# Altium footprint library ADF4360.PcbLib: 3 footprints
Each footprint in its own frame and in the unit in brackets; x right, y up, seen from the top. Pads: shape width x height; smd on the part's side, far side on the other; paste and mask are expansions set on the pad; w line width, h text height; cw(c..) or ccw(c..) is an arc to the next point about the centre after c.
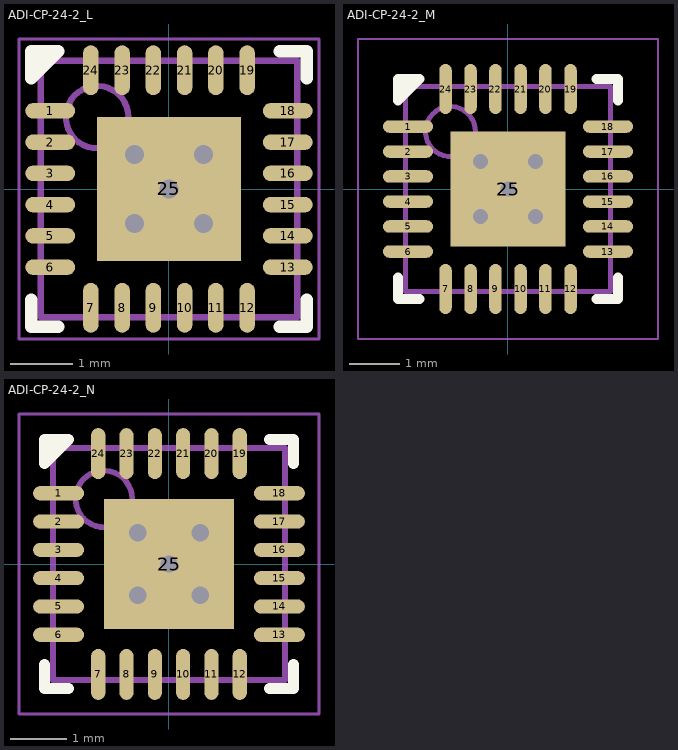
[diagram p0: the footprints below, top view; thin cyan lines are the x and y axes]

## ADI-CP-24-2_L [mm]
pads (25):
  oval 0.8x0.25 smd: 1(-1.9,1.25) 2(-1.9,0.75) 3(-1.9,0.25) 4(-1.9,-0.25) 5(-1.9,-0.75) 6(-1.9,-1.25) 13(1.9,-1.25) 14(1.9,-0.75) 15(1.9,-0.25) 16(1.9,0.25) 17(1.9,0.75) 18(1.9,1.25)
  oval 0.25x0.8 smd: 7(-1.25,-1.9) 8(-0.75,-1.9) 9(-0.25,-1.9) 10(0.25,-1.9) 11(0.75,-1.9) 12(1.25,-1.9) 19(1.25,1.9) 20(0.75,1.9) 21(0.25,1.9) 22(-0.25,1.9) 23(-0.75,1.9) 24(-1.25,1.9)
  rect 2.3x2.3 smd: 25(0,0)
via 0.55,-0.55 diameter 0.61 hole 0.305
via -0.55,-0.55 diameter 0.61 hole 0.305
via 0.55,0.55 diameter 0.61 hole 0.305
via -0.55,0.55 diameter 0.61 hole 0.305
via 0,0 diameter 0.61 hole 0.305
Top Overlay:
  region: -2.2,2.2 -2.2,1.775 -1.775,2.2
  lines w0.2: -2.2,-1.775 -2.2,-2.2 -1.775,-2.2 ; 1.775,-2.2 2.2,-2.2 2.2,-1.775 ; 1.775,2.2 2.2,2.2 2.2,1.775 ; -2.2,1.775 -1.775,2.2 -2.2,2.2 -2.2,1.775
Mechanical 13:
  circle w0.1: c-1.15,1.15 r0.5
  lines w0.1: -2.05,-2.05 2.05,-2.05 2.05,2.05 -2.05,2.05 -2.05,-2.05
Mechanical 15:
  lines w0.05: -2.4,-2.4 2.4,-2.4 2.4,2.4 -2.4,2.4 -2.4,-2.4
  lines w0.1: -0.5,0 0.5,0 ; 0,-0.5 0,0.5
3D body: height 1, standoff 0, extent -2.05,-2.05 2.05,2.05

## ADI-CP-24-2_M [mm]
pads (25):
  oval 1x0.25 smd: 1(-2,1.25) 2(-2,0.75) 3(-2,0.25) 4(-2,-0.25) 5(-2,-0.75) 6(-2,-1.25) 13(2,-1.25) 14(2,-0.75) 15(2,-0.25) 16(2,0.25) 17(2,0.75) 18(2,1.25)
  oval 0.25x1 smd: 7(-1.25,-2) 8(-0.75,-2) 9(-0.25,-2) 10(0.25,-2) 11(0.75,-2) 12(1.25,-2) 19(1.25,2) 20(0.75,2) 21(0.25,2) 22(-0.25,2) 23(-0.75,2) 24(-1.25,2)
  rect 2.3x2.3 smd: 25(0,0)
via 0,0 diameter 0.61 hole 0.305
via 0.55,-0.55 diameter 0.61 hole 0.305
via -0.55,-0.55 diameter 0.61 hole 0.305
via 0.55,0.55 diameter 0.61 hole 0.305
via -0.55,0.55 diameter 0.61 hole 0.305
Top Overlay:
  region: -2.2,2.2 -2.2,1.775 -1.775,2.2
  lines w0.2: -2.2,-1.775 -2.2,-2.2 -1.775,-2.2 ; 1.775,-2.2 2.2,-2.2 2.2,-1.775 ; 1.775,2.2 2.2,2.2 2.2,1.775 ; -2.2,1.775 -2.2,2.2 -1.775,2.2 -2.2,1.775
Mechanical 13:
  circle w0.1: c-1.15,1.15 r0.5
  lines w0.1: -2.05,-2.05 2.05,-2.05 2.05,2.05 -2.05,2.05 -2.05,-2.05
Mechanical 15:
  lines w0.05: -3,-3 3,-3 3,3 -3,3 -3,-3
  lines w0.1: -0.5,0 0.5,0 ; 0,-0.5 0,0.5
3D body: height 1, standoff 0, extent -2.05,-2.05 2.05,2.05

## ADI-CP-24-2_N [mm]
pads (25):
  oval 0.9x0.25 smd: 1(-1.95,1.25) 2(-1.95,0.75) 3(-1.95,0.25) 4(-1.95,-0.25) 5(-1.95,-0.75) 6(-1.95,-1.25) 13(1.95,-1.25) 14(1.95,-0.75) 15(1.95,-0.25) 16(1.95,0.25) 17(1.95,0.75) 18(1.95,1.25)
  oval 0.25x0.9 smd: 7(-1.25,-1.95) 8(-0.75,-1.95) 9(-0.25,-1.95) 10(0.25,-1.95) 11(0.75,-1.95) 12(1.25,-1.95) 19(1.25,1.95) 20(0.75,1.95) 21(0.25,1.95) 22(-0.25,1.95) 23(-0.75,1.95) 24(-1.25,1.95)
  rect 2.3x2.3 smd: 25(0,0)
via 0.55,-0.55 diameter 0.61 hole 0.305
via -0.55,-0.55 diameter 0.61 hole 0.305
via 0.55,0.55 diameter 0.61 hole 0.305
via -0.55,0.55 diameter 0.61 hole 0.305
via 0,0 diameter 0.61 hole 0.305
Top Overlay:
  region: -2.2,2.2 -2.2,1.775 -1.775,2.2
  lines w0.2: -2.2,-1.775 -2.2,-2.2 -1.775,-2.2 ; 1.775,-2.2 2.2,-2.2 2.2,-1.775 ; 1.775,2.2 2.2,2.2 2.2,1.775 ; -2.2,1.775 -1.775,2.2 -2.2,2.2 -2.2,1.775
Mechanical 13:
  circle w0.1: c-1.15,1.15 r0.5
  lines w0.1: -2.05,-2.05 2.05,-2.05 2.05,2.05 -2.05,2.05 -2.05,-2.05
Mechanical 15:
  lines w0.05: -2.65,-2.65 2.65,-2.65 2.65,2.65 -2.65,2.65 -2.65,-2.65
  lines w0.1: -0.5,0 0.5,0 ; 0,-0.5 0,0.5
3D body: height 1, standoff 0, extent -2.05,-2.05 2.05,2.05